# EAGLE library part BUTTON_SWITCH_VERTICAL (library _mtvl.switch)
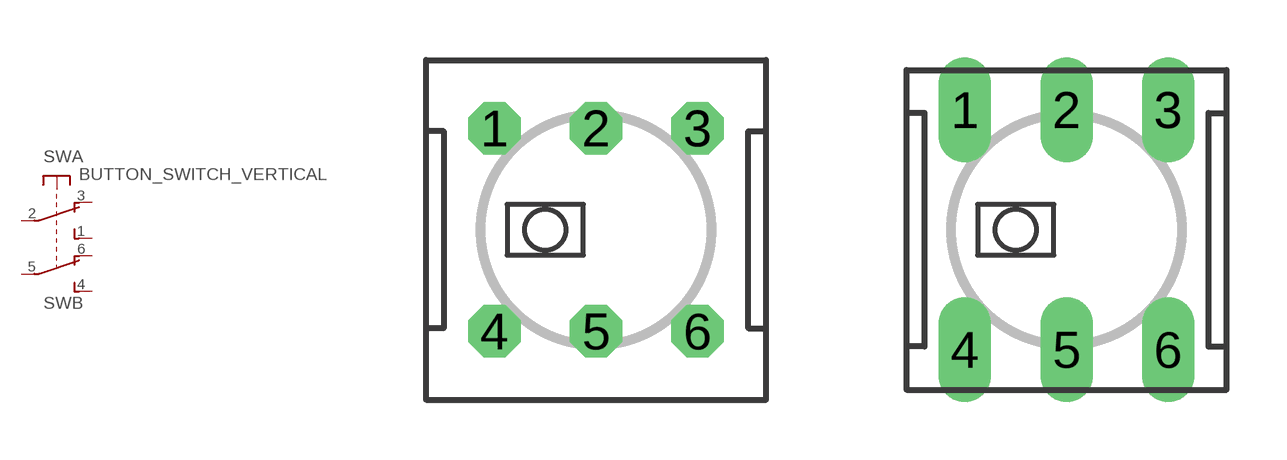
[diagram p6: symbol with the pads of BUTTON_8.5X8.5_GREY; footprints BUTTON_8.5X8.5_GREY, BUTTON_8X8_B]

Designator prefix SW; gates A=SW_A B=SW_B

## BUTTON_SWITCH_VERTICALGREY  [BUTTON_8.5X8.5_GREY]
1  A:NO  pas
2  A:SW  pas
3  A:NC  pas
4  B:NO  pas
5  B:SW  pas
6  B:NC  pas

## BUTTON_SWITCH_VERTICALBLUE  [BUTTON_8X8_B]
1  A:SW  pas
2  A:NO  pas
3  A:NC  pas
4  B:NC  pas
5  B:NO  pas
6  B:SW  pas

## BUTTON_SWITCH_VERTICAL-RUICH_PB22E06  [RUICHI_PB22E06]
1  A:NC  pas
2  A:SW  pas
3  A:NO  pas
4  B:NC  pas
5  B:SW  pas
6  B:NO  pas

## Footprint BUTTON_8.5X8.5_GREY (pad centres in mm)
KLS7-P8.5x8.5-1 (PB22E09) Manufacturer: KLS <https://klsele.com/products/Switches/Push-Switches/1041.html> Distributor: Chip-Dip <https://www.chipdip.ru/product/ps850l-pb22e09>
drill 0.8 octagon: 1 -2.54,2.54; 2 0,2.54; 3 2.54,2.54; 4 -2.54,-2.54; 5 0,-2.54; 6 2.54,-2.54

## Footprint BUTTON_8X8_B (pad centres in mm)
drill 0.8 long: 1 -2.54,3; 2 0,3; 3 2.54,3; 4 -2.54,-3; 5 0,-3; 6 2.54,-3

## Footprint RUICHI_PB22E06 (pad centres in mm)
PB22E06 Button switch vertical RUICHI PB22E06 <https://www.chipdip.ru/product0/8007167247>
drill 0.8 octagon: 1 -2,2.25; 2 0,2.25; 3 2,2.25; 4 -2,-2.25; 5 0,-2.25; 6 2,-2.25